# EAGLE library part MC56303 (library F030NG)
DSP / MC56303
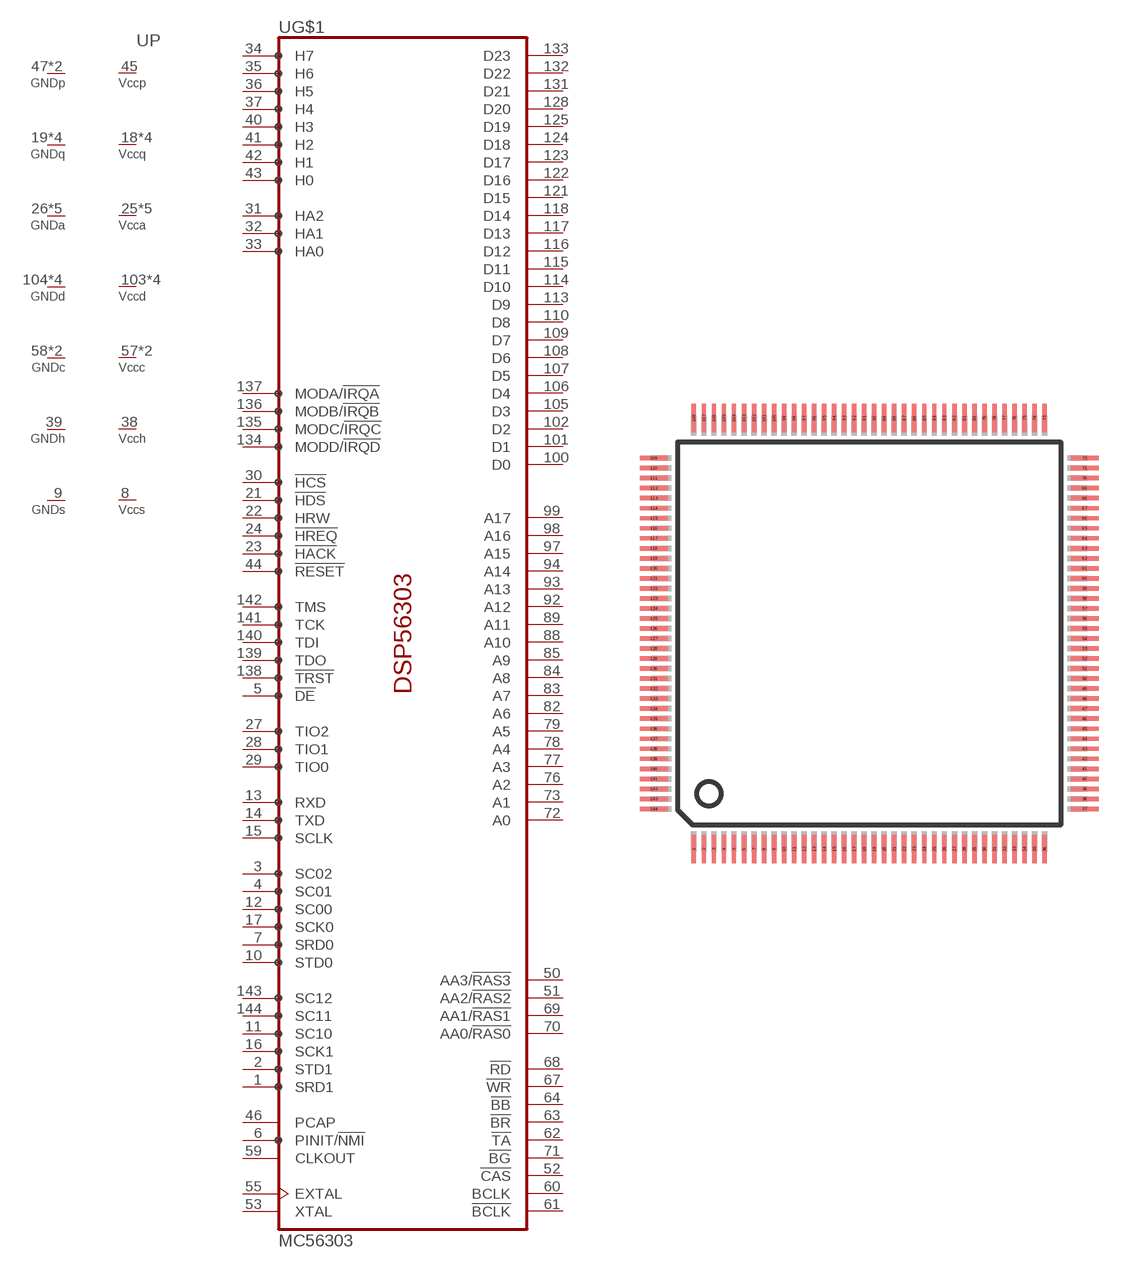
[diagram p69: symbol with the pads of TQFP144; footprint TQFP144]

Designator prefix U; gates P=7VCC_7GND G$1=MC56303

## MC56303  [TQFP144]
1  G$1:SRD1  in
2  G$1:STD1  out
3  G$1:SC02
4  G$1:SC01
5  G$1:!DE
6  G$1:PINIT/!NMI  in
7  G$1:SRD0  in
8  P:VCC  pwr
9  P:GND  pwr
10  G$1:STD0  out
11  G$1:SC10
12  G$1:SC00
13  G$1:RXD  in
14  G$1:TXD  out
15  G$1:SCLK
16  G$1:SCK1
17  G$1:SCK0
18  P:VCC  pwr
19  P:GND  pwr
21  G$1:!HDS  in
22  G$1:HRW  in
23  G$1:!HACK  in
24  G$1:!HREQ  out
25  P:VCC  pwr
26  P:GND  pwr
27  G$1:TIO2
28  G$1:TIO1
29  G$1:TIO0
30  G$1:!HCS  in
31  G$1:HA2  in
32  G$1:HA1  in
33  G$1:HA0  in
34  G$1:H7
35  G$1:H6
36  G$1:H5
37  G$1:H4
38  P:VCC  pwr
39  P:GND  pwr
40  G$1:H3
41  G$1:H2
42  G$1:H1
43  G$1:H0
44  G$1:!RESET  in
45  P:VCC  pwr
46  G$1:PCAP  pas
47  P:GND  pwr
48  P:GND  pwr
50  G$1:AA3/!RAS3  out
51  G$1:AA2/!RAS2  out
52  G$1:!CAS  out
53  G$1:XTAL  out
54  P:GND  pwr
55  G$1:EXTAL  in
56  P:VCC  pwr
57  P:VCC  pwr
58  P:GND  pwr
59  G$1:CLKOUT  out
60  G$1:BCLK  out
61  G$1:!BCLK  out
62  G$1:!TA  in
63  G$1:!BR  out
64  G$1:!BB
65  P:VCC  pwr
66  P:GND  pwr
67  G$1:!WR  out
68  G$1:!RD  out
69  G$1:AA1/!RAS1  out
70  G$1:AA0/!RAS0  out
71  G$1:!BG  in
72  G$1:A0  out
73  G$1:A1  out
74  P:VCC  pwr
75  P:GND  pwr
76  G$1:A2  out
77  G$1:A3  out
78  G$1:A4  out
79  G$1:A5  out
80  P:VCC  pwr
81  P:GND  pwr
82  G$1:A6  out
83  G$1:A7  out
84  G$1:A8  out
85  G$1:A9  out
86  P:VCC  pwr
87  P:GND  pwr
88  G$1:A10  out
89  G$1:A11  out
90  P:GND  pwr
91  P:VCC  pwr
92  G$1:A12  out
93  G$1:A13  out
94  G$1:A14  out
95  P:VCC  pwr
96  P:GND  pwr
97  G$1:A15  out
98  G$1:A16  out
99  G$1:A17  out
100  G$1:D0
101  G$1:D1
102  G$1:D2
103  P:VCC  pwr
104  P:GND  pwr
105  G$1:D3
106  G$1:D4
107  G$1:D5
108  G$1:D6
109  G$1:D7
110  G$1:D8
111  P:VCC  pwr
112  P:GND  pwr
113  G$1:D9
114  G$1:D10
115  G$1:D11
116  G$1:D12
117  G$1:D13
118  G$1:D14
119  P:VCC  pwr
120  P:GND  pwr
121  G$1:D15
122  G$1:D16
123  G$1:D17
124  G$1:D18
125  G$1:D19
126  P:VCC  pwr
127  P:GND  pwr
128  G$1:D20
129  P:VCC  pwr
130  P:GND  pwr
131  G$1:D21
132  G$1:D22
133  G$1:D23
134  G$1:MODD/!IRQD  in
135  G$1:MODC/!IRQC  in
136  G$1:MODB/!IRQB  in
137  G$1:MODA/!IRQA  in
138  G$1:!TRST  in
139  G$1:TDO  out
140  G$1:TDI  in
141  G$1:TCK  in
142  G$1:TMS  in
143  G$1:SC12
144  G$1:SC11

## Footprint TQFP144 (pad centres in mm)
Thin Quad Flat Pack
smd 0.22 x 1.44: 1 -8.75,-10.75; 2 -8.25,-10.75; 3 -7.75,-10.75; 4 -7.25,-10.75; 5 -6.75,-10.75; 6 -6.25,-10.75; 7 -5.75,-10.75; 8 -5.25,-10.75; 9 -4.75,-10.75; 10 -4.25,-10.75; 11 -3.75,-10.75; 12 -3.25,-10.75; 13 -2.75,-10.75; 14 -2.25,-10.75; 15 -1.75,-10.75; 16 -1.25,-10.75; 17 -0.75,-10.75; 18 -0.25,-10.75; 19 0.25,-10.75; 20 0.75,-10.75; 21 1.25,-10.75; 22 1.75,-10.75; 23 2.25,-10.75; 24 2.75,-10.75; 25 3.25,-10.75; 26 3.75,-10.75; 27 4.25,-10.75; 28 4.75,-10.75; 29 5.25,-10.75; 30 5.75,-10.75; 31 6.25,-10.75; 32 6.75,-10.75; 33 7.25,-10.75; 34 7.75,-10.75; 35 8.25,-10.75; 36 8.75,-10.75; 73 8.75,10.75; 74 8.25,10.75; 75 7.75,10.75; 76 7.25,10.75; 77 6.75,10.75; 78 6.25,10.75; 79 5.75,10.75; 80 5.25,10.75; 81 4.75,10.75; 82 4.25,10.75; 83 3.75,10.75; 84 3.25,10.75; 85 2.75,10.75; 86 2.25,10.75; 87 1.75,10.75; 88 1.25,10.75; 89 0.75,10.75; 90 0.25,10.75; 91 -0.25,10.75; 92 -0.75,10.75; 93 -1.25,10.75; 94 -1.75,10.75; 95 -2.25,10.75; 96 -2.75,10.75; 97 -3.25,10.75; 98 -3.75,10.75; 99 -4.25,10.75; 100 -4.75,10.75; 101 -5.25,10.75; 102 -5.75,10.75; 103 -6.25,10.75; 104 -6.75,10.75; 105 -7.25,10.75; 106 -7.75,10.75; 107 -8.25,10.75; 108 -8.75,10.75
smd 1.4 x 0.22: 37 10.75,-8.75; 38 10.75,-8.25; 39 10.75,-7.75; 40 10.75,-7.25; 41 10.75,-6.75; 42 10.75,-6.25; 43 10.75,-5.75; 44 10.75,-5.25; 45 10.75,-4.75; 46 10.75,-4.25; 47 10.75,-3.75; 48 10.75,-3.25; 49 10.75,-2.75; 50 10.75,-2.25; 51 10.75,-1.75; 52 10.75,-1.25; 53 10.75,-0.75; 54 10.75,-0.25; 55 10.75,0.25; 56 10.75,0.75; 57 10.75,1.25; 58 10.75,1.75; 59 10.75,2.25; 60 10.75,2.75; 61 10.75,3.25; 62 10.75,3.75; 63 10.75,4.25; 64 10.75,4.75; 65 10.75,5.25; 66 10.75,5.75; 67 10.75,6.25; 68 10.75,6.75; 69 10.75,7.25; 70 10.75,7.75; 71 10.75,8.25; 72 10.75,8.75; 109 -10.75,8.75; 110 -10.75,8.25; 111 -10.75,7.75; 112 -10.75,7.25; 113 -10.75,6.75; 114 -10.75,6.25; 115 -10.75,5.75; 116 -10.75,5.25; 117 -10.75,4.75; 118 -10.75,4.25; 119 -10.75,3.75; 120 -10.75,3.25; 121 -10.75,2.75; 122 -10.75,2.25; 123 -10.75,1.75; 124 -10.75,1.25; 125 -10.75,0.75; 126 -10.75,0.25; 127 -10.75,-0.25; 128 -10.75,-0.75; 129 -10.75,-1.25; 130 -10.75,-1.75; 131 -10.75,-2.25; 132 -10.75,-2.75; 133 -10.75,-3.25; 134 -10.75,-3.75; 135 -10.75,-4.25; 136 -10.75,-4.75; 137 -10.75,-5.25; 138 -10.75,-5.75; 139 -10.75,-6.25; 140 -10.75,-6.75; 141 -10.75,-7.25; 142 -10.75,-7.75; 143 -10.75,-8.25; 144 -10.75,-8.75